# Altium integrated library Microchip I2C Serial EEPROM.IntLib: 1069 symbols (part 2 of 28)
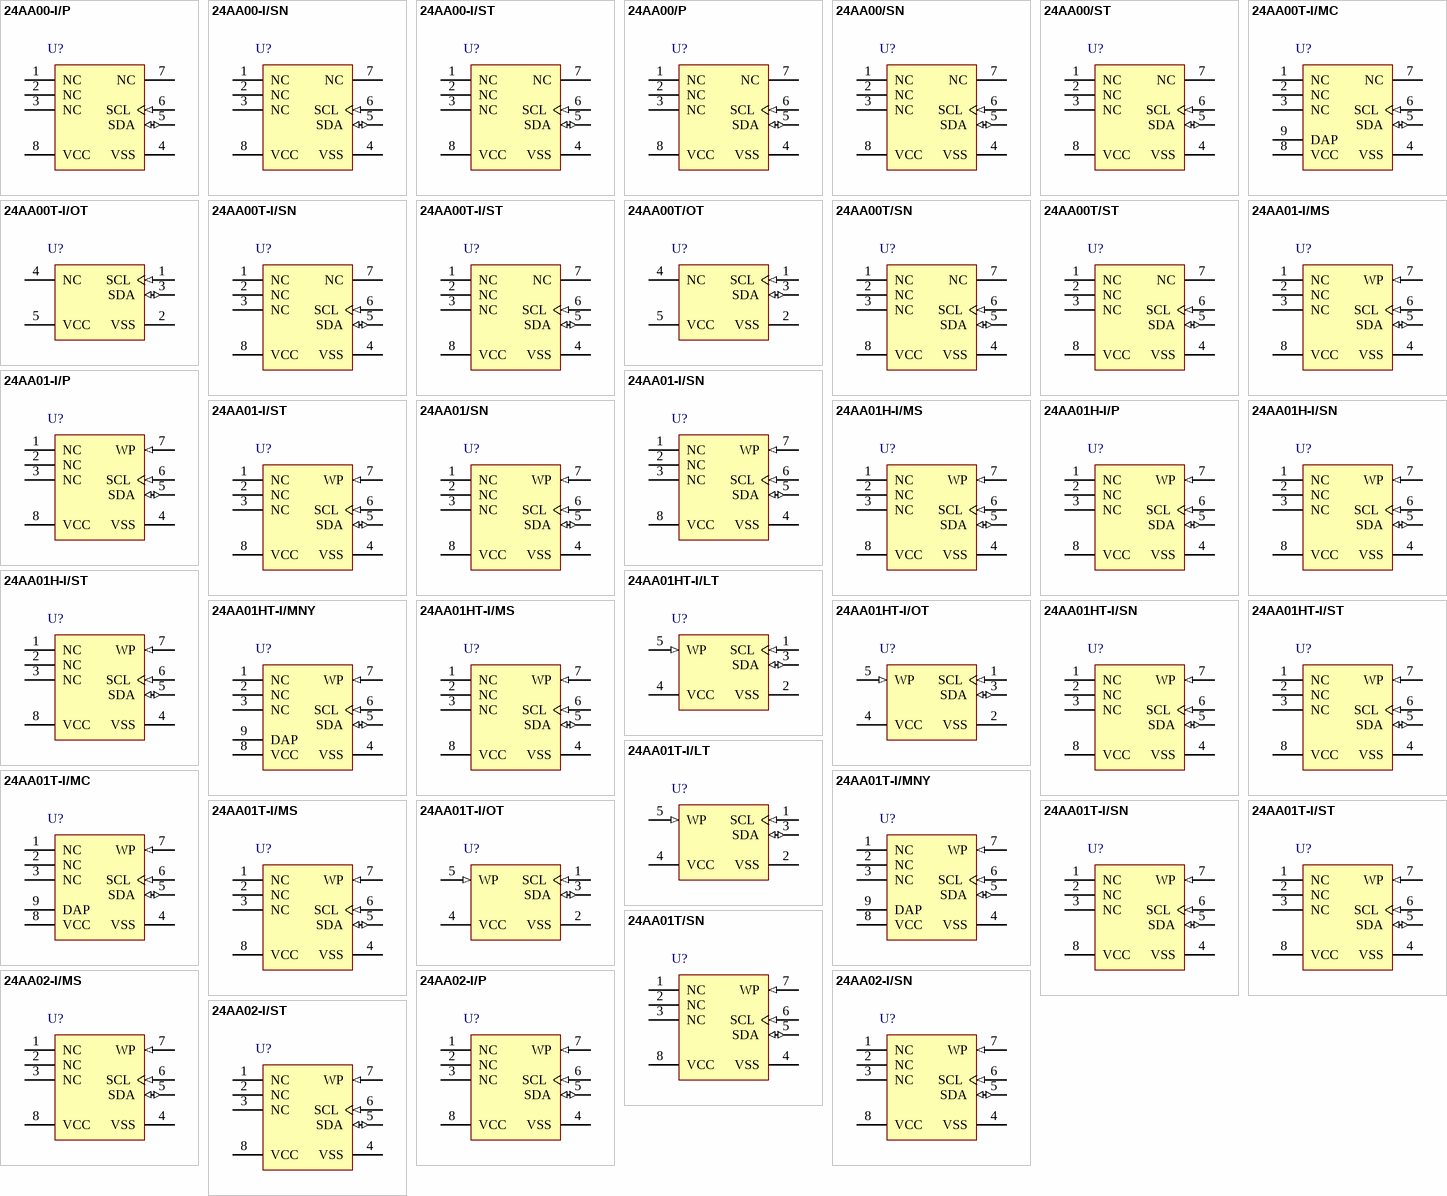
[diagram p27: symbols 24AA00-I/P to 24AA02-I/ST]

## 24AA02-I/ST
designator U?
2Kbit, 400kHz, 1.7V, I2C Serial EEPROM, 8-Pin TSSOP, Industrial Temperature; Manufacturer: Microchip; PartNumber: 24AA02-I/ST; DatasheetVersion: revJ, Feb-2009; PackageVersion: revBB, Aug-2009; PackageReference: TSSOP-ST8; PackageDescription: 8-Lead Plastic Thin Shrink Small Outline (ST) - 4.4mm Body [TSSOP]; Supplier 1: Digi-Key; Supplier Part Number 1: 24AA02-I/ST-ND; Supplier 2: Mouser; Supplier Part Number 2: 579-24AA02-I/ST; Mounting Technology: Surface Mount; Code_JEDEC: MO-153; ComponentLink1Description: Manufacturer URL; ComponentLink1URL: http://www.microchip.com/; ComponentLink2Description: Datasheet; ComponentLink2URL: http://ww1.microchip.com/downloads/en/DeviceDoc/21709J.pdf; ComponentLink3Description: Package Specification; ComponentLink3URL: http://www.microchip.com/stellent/groups/techpub_sg/documents/packagingspec/en012702.pdf
footprint TSSOP-ST8_N (TSOP, 8-Leads, Body 3x4.4mm, Pitch 0.65mm, IPC Medium Density)
footprint TSSOP-ST8_L (TSOP, 8-Leads, Body 3x4.4mm, Pitch 0.65mm, IPC High Density)
footprint TSSOP-ST8_M (TSOP, 8-Leads, Body 3x4.4mm, Pitch 0.65mm, IPC Low Density)
pins: 1 NC, 2 NC, 3 NC, 4 VSS (power), 5 SDA (io), 6 SCL (in), 7 WP (in), 8 VCC (power)

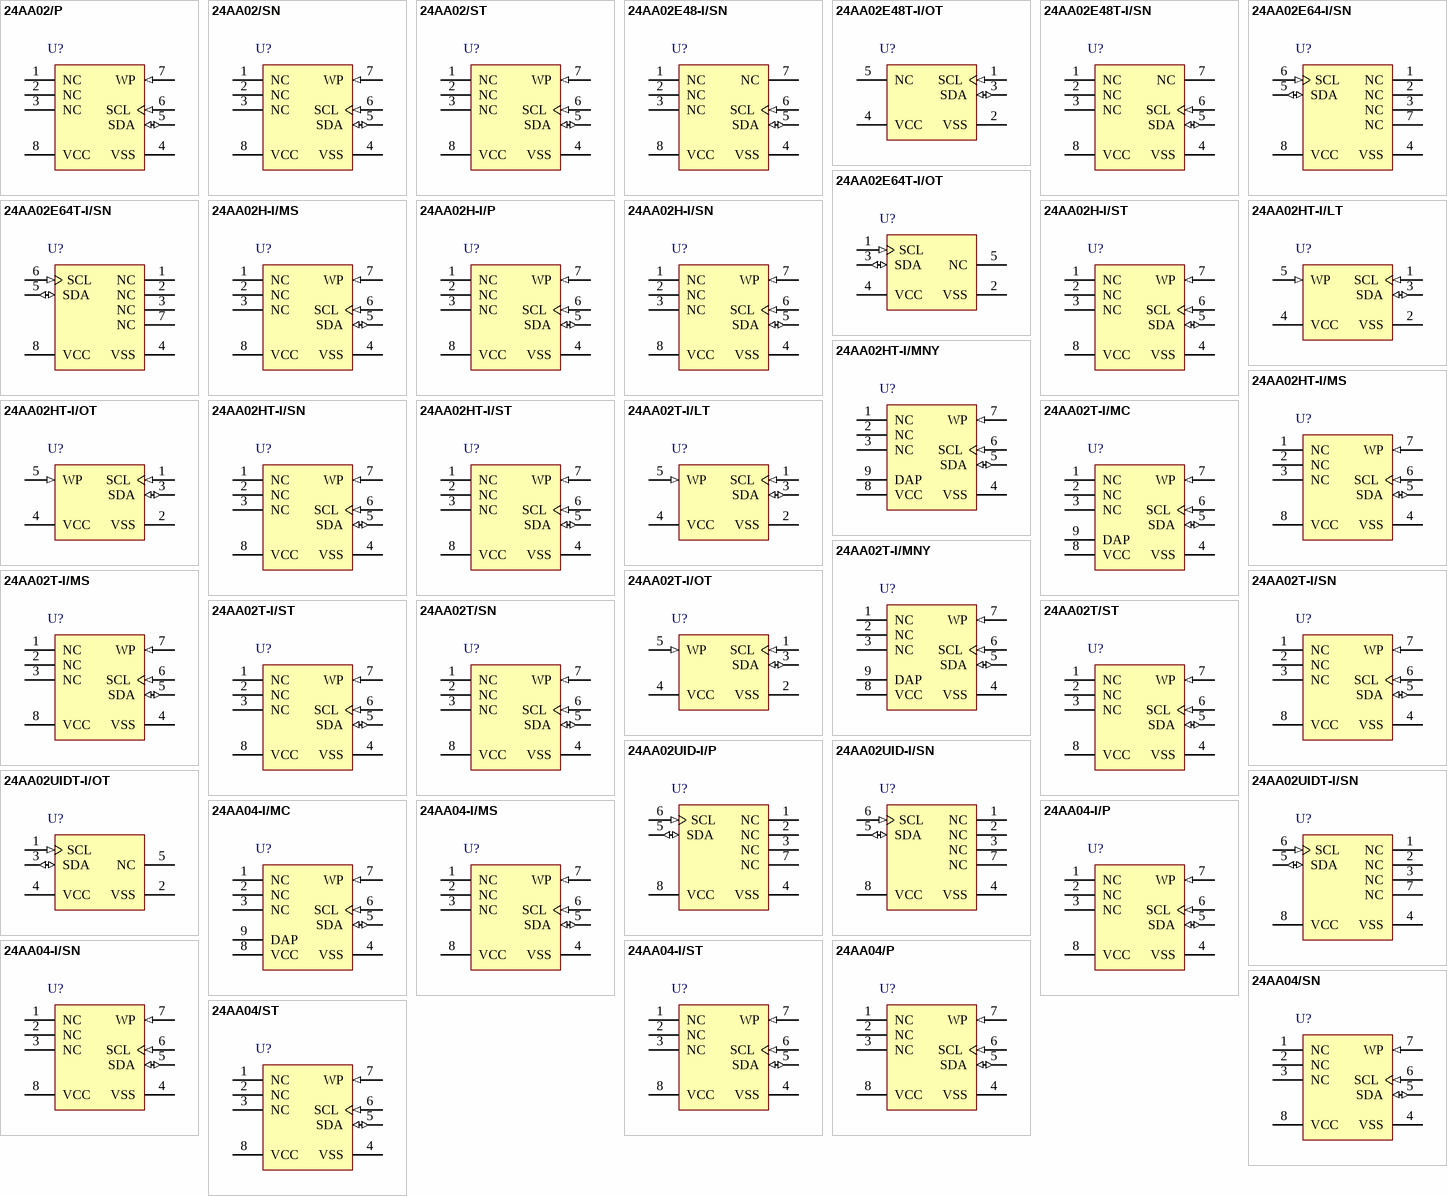
[diagram p1: symbols 24AA02/P to 24AA04/ST]

## 24AA02/P
designator U?
2Kbit, 400kHz, 1.7V, I2C Serial EEPROM, 8-Pin PDIP, Commercial Temperature; Manufacturer: Microchip; PartNumber: 24AA02/P; DatasheetVersion: revJ, Feb-2009; PackageVersion: revBB, Aug-2009; PackageReference: PDIP300-P8; PackageDescription: 8-Lead Plastic Dual In-Line (P) - 300 mil Body [PDIP]; Supplier 1: Digi-Key; Supplier Part Number 1: 24AA02/P-ND; Supplier 2: Mouser; Supplier Part Number 2: 579-24AA02/P; Mounting Technology: Through Hole; Code_JEDEC: MS-001; ComponentLink1Description: Manufacturer URL; ComponentLink1URL: http://www.microchip.com/; ComponentLink2Description: Datasheet; ComponentLink2URL: http://ww1.microchip.com/downloads/en/DeviceDoc/21709J.pdf; ComponentLink3Description: Package Specification; ComponentLink3URL: http://www.microchip.com/stellent/groups/techpub_sg/documents/packagingspec/en012702.pdf
footprint PDIP300-P8 (DIP, 8-Leads, Row Spacing 7.62mm, Pitch 2.54mm, Body 9.5x6.6mm)
pins: 1 NC, 2 NC, 3 NC, 4 VSS (power), 5 SDA (io), 6 SCL (in), 7 WP (in), 8 VCC (power)

## 24AA02/SN
designator U?
2Kbit, 400kHz, 1.7V, I2C Serial EEPROM, 8-Pin SOIC 150mil, Commercial Temperature; Manufacturer: Microchip; PartNumber: 24AA02/SN; DatasheetVersion: revJ, Feb-2009; PackageVersion: revBB, Aug-2009; PackageReference: SOIC-SN8; PackageDescription: 8-Lead Plastic Small Outline (SN) - Narrow, 3.90mm Body [SOIC]; Supplier 1: Digi-Key; Supplier Part Number 1: 24AA02/SN-ND; Supplier 2: Newark; Supplier Part Number 2: 89C9793; Supplier 3: Mouser; Supplier Part Number 3: 579-24AA02/SN; Mounting Technology: Surface Mount; Code_JEDEC: MS-012; Code_IPC: SOIC127P600-8; ComponentLink1Description: Manufacturer URL; ComponentLink1URL: http://www.microchip.com/; ComponentLink2Description: Datasheet; ComponentLink2URL: http://ww1.microchip.com/downloads/en/DeviceDoc/21709J.pdf; ComponentLink3Description: Package Specification; ComponentLink3URL: http://www.microchip.com/stellent/groups/techpub_sg/documents/packagingspec/en012702.pdf
footprint SOIC-SN8_N (SOIC, 8-Leads, Body 4.9x3.8mm, Pitch 1.27mm, IPC Medium Density)
footprint SOIC-SN8_L (SOIC, 8-Leads, Body 4.9x3.8mm, Pitch 1.27mm, IPC High Density)
footprint SOIC-SN8_M (SOIC, 8-Leads, Body 4.9x3.8mm, Pitch 1.27mm, IPC Low Density)
pins: 1 NC, 2 NC, 3 NC, 4 VSS (power), 5 SDA (io), 6 SCL (in), 7 WP (in), 8 VCC (power)

## 24AA02/ST
designator U?
2Kbit, 400kHz, 1.7V, I2C Serial EEPROM, 8-Pin TSSOP, Commercial Temperature; Manufacturer: Microchip; PartNumber: 24AA02/ST; DatasheetVersion: revJ, Feb-2009; PackageVersion: revBB, Aug-2009; PackageReference: TSSOP-ST8; PackageDescription: 8-Lead Plastic Thin Shrink Small Outline (ST) - 4.4mm Body [TSSOP]; Supplier 1: Digi-Key; Supplier Part Number 1: 24AA02/ST-ND; Supplier 2: Mouser; Supplier Part Number 2: 579-24AA02/ST; Mounting Technology: Surface Mount; Code_JEDEC: MO-153; ComponentLink1Description: Manufacturer URL; ComponentLink1URL: http://www.microchip.com/; ComponentLink2Description: Datasheet; ComponentLink2URL: http://ww1.microchip.com/downloads/en/DeviceDoc/21709J.pdf; ComponentLink3Description: Package Specification; ComponentLink3URL: http://www.microchip.com/stellent/groups/techpub_sg/documents/packagingspec/en012702.pdf
footprint TSSOP-ST8_N (TSOP, 8-Leads, Body 3x4.4mm, Pitch 0.65mm, IPC Medium Density)
footprint TSSOP-ST8_L (TSOP, 8-Leads, Body 3x4.4mm, Pitch 0.65mm, IPC High Density)
footprint TSSOP-ST8_M (TSOP, 8-Leads, Body 3x4.4mm, Pitch 0.65mm, IPC Low Density)
pins: 1 NC, 2 NC, 3 NC, 4 VSS (power), 5 SDA (io), 6 SCL (in), 7 WP (in), 8 VCC (power)

## 24AA02E48-I/SN
designator U?
2Kbit, 400kHz, 1.7V, I2C Serial EEPROM with EUI-48 Node Identity, 8-Pin SOIC 150mil, Industrial Temperature; Manufacturer: Microchip; PartNumber: 24AA02E48-I/SN; DatasheetVersion: revB, Jan-2009; PackageVersion: revBB, Aug-2009; PackageReference: SOIC-SN8; PackageDescription: 8-Lead Plastic Small Outline (SN) - Narrow, 3.90mm Body [SOIC]; Supplier 1: Digi-Key; Supplier Part Number 1: 24AA02E48-I/SN-ND; Supplier 2: Farnell; Supplier Part Number 2: 1688857; Supplier 3: Newark; Supplier Part Number 3: 45P4894; Supplier 4: Mouser; Supplier Part Number 4: 579-24AA02E48ISN; Mounting Technology: Surface Mount; Code_JEDEC: MS-012; Code_IPC: SOIC127P600-8; ComponentLink1Description: Manufacturer URL; ComponentLink1URL: http://www.microchip.com/; ComponentLink2Description: Datasheet; ComponentLink2URL: http://ww1.microchip.com/downloads/en/DeviceDoc/22124B.pdf; ComponentLink3Description: Package Specification; ComponentLink3URL: http://www.microchip.com/stellent/groups/techpub_sg/documents/packagingspec/en012702.pdf
footprint SOIC-SN8_N (SOIC, 8-Leads, Body 4.9x3.8mm, Pitch 1.27mm, IPC Medium Density)
footprint SOIC-SN8_L (SOIC, 8-Leads, Body 4.9x3.8mm, Pitch 1.27mm, IPC High Density)
footprint SOIC-SN8_M (SOIC, 8-Leads, Body 4.9x3.8mm, Pitch 1.27mm, IPC Low Density)
pins: 1 NC, 2 NC, 3 NC, 4 VSS (power), 5 SDA (io), 6 SCL (in), 7 NC, 8 VCC (power)

## 24AA02E48T-I/OT
designator U?
2Kbit, 400kHz, 1.7V, I2C Serial EEPROM with EUI-48 Node Identity, 5-Pin SOT-23, Industrial Temperature, Tape and Reel; Manufacturer: Microchip; PartNumber: 24AA02E48T-I/OT; DatasheetVersion: revB, Jan-2009; PackageVersion: revBB, Aug-2009; PackageReference: SOT-23-OT5; PackageDescription: 5-Lead Plastic Small Outline Transistor (OT) [SOT-23]; Supplier 1: Digi-Key; Supplier Part Number 1: 24AA02E48T-I/OTTR-ND; Supplier 2: Digi-Key; Supplier Part Number 2: 24AA02E48T-I/OTCT-ND; Supplier 3: Digi-Key; Supplier Part Number 3: 24AA02E48T-I/OTDKR-ND; Supplier 4: Farnell; Supplier Part Number 4: 1688855; Supplier 5: Farnell; Supplier Part Number 5: 1688855RL; Supplier 6: Newark; Supplier Part Number 6: 45P4895; Supplier 7: Mouser; Supplier Part Number 7: 579-24AA02E48TIOT; Mounting Technology: Surface Mount; Code_IPC: SOT23-5; ComponentLink1Description: Manufacturer URL; ComponentLink1URL: http://www.microchip.com/; ComponentLink2Description: Datasheet; ComponentLink2URL: http://ww1.microchip.com/downloads/en/DeviceDoc/22124B.pdf; ComponentLink3Description: Package Specification; ComponentLink3URL: http://www.microchip.com/stellent/groups/techpub_sg/documents/packagingspec/en012702.pdf
footprint SOT-23-OT5_N (SOT23, 5-Leads, Body 2.9x1.6mm, Pitch 0.95mm, Lead Span 2.7mm, IPC Medium Density)
footprint SOT-23-OT5_L (SOT23, 5-Leads, Body 2.9x1.6mm, Pitch 0.95mm, Lead Span 2.7mm, IPC High Density)
footprint SOT-23-OT5_M (SOT23, 5-Leads, Body 2.9x1.6mm, Pitch 0.95mm, Lead Span 2.7mm, IPC Low Density)
pins: 1 SCL (in), 2 VSS (power), 3 SDA (io), 4 VCC (power), 5 NC

## 24AA02E48T-I/SN
designator U?
2Kbit, 400kHz, 1.7V, I2C Serial EEPROM with EUI-48 Node Identity, 8-Pin SOIC 150mil, Industrial Temperature, Tape and Reel; Manufacturer: Microchip; PartNumber: 24AA02E48T-I/SN; DatasheetVersion: revB, Jan-2009; PackageVersion: revBB, Aug-2009; PackageReference: SOIC-SN8; PackageDescription: 8-Lead Plastic Small Outline (SN) - Narrow, 3.90mm Body [SOIC]; Supplier 1: Digi-Key; Supplier Part Number 1: 24AA02E48T-I/SN-ND; Supplier 2: Newark; Supplier Part Number 2: 45P4896; Supplier 3: Mouser; Supplier Part Number 3: 579-24AA02E48TISN; Mounting Technology: Surface Mount; Code_JEDEC: MS-012; Code_IPC: SOIC127P600-8; ComponentLink1Description: Manufacturer URL; ComponentLink1URL: http://www.microchip.com/; ComponentLink2Description: Datasheet; ComponentLink2URL: http://ww1.microchip.com/downloads/en/DeviceDoc/22124B.pdf; ComponentLink3Description: Package Specification; ComponentLink3URL: http://www.microchip.com/stellent/groups/techpub_sg/documents/packagingspec/en012702.pdf
footprint SOIC-SN8_N (SOIC, 8-Leads, Body 4.9x3.8mm, Pitch 1.27mm, IPC Medium Density)
footprint SOIC-SN8_L (SOIC, 8-Leads, Body 4.9x3.8mm, Pitch 1.27mm, IPC High Density)
footprint SOIC-SN8_M (SOIC, 8-Leads, Body 4.9x3.8mm, Pitch 1.27mm, IPC Low Density)
pins: 1 NC, 2 NC, 3 NC, 4 VSS (power), 5 SDA (io), 6 SCL (in), 7 NC, 8 VCC (power)

## 24AA02E64-I/SN
designator U?
2K I2C Serial EEPROMs with EUI-64 Node Identity, 1.7 to 5.5 V, 400 KHz, Industrial Temperature, 8-Pin SOIC (SN8), Tube; Manufacturer: Microchip; PartNumber: 24AA02E64-I/SN; DatasheetVersion: Rev. E; PackageVersion: C04-057C, 12/2012; PackageReference: SOIC-SN8; PackageDescription: 8-Lead Plastic Small Outline, 4.9 x 3.9 mm Body, 1.27 mm Pitch; Supplier 1: Digi-Key; Supplier Part Number 1: 24AA02E64-I/SN-ND; Supplier 2: Farnell; Supplier Part Number 2: 2345566; Supplier 3: Newark; Supplier Part Number 3: 66W7570; Supplier 4: Newark; Supplier Part Number 4: 01X0460; Supplier 5: Mouser; Supplier Part Number 5: 579-24AA02E64-I/SN; Packing: Tube; VCC Range: 1.7 to 5.5 V; Mounting Technology: Surface Mount; ComponentLink1Description: Manufacturer URL; ComponentLink1URL: http://www.microchip.com/; ComponentLink2Description: Datasheet; ComponentLink2URL: http://ww1.microchip.com/downloads/en/DeviceDoc/20002124E.pdf; ComponentLink3Description: Package Specification; ComponentLink3URL: http://ww1.microchip.com/downloads/en/DeviceDoc/20002122B.pdf
footprint MCHP-SOIC-SN8_N (SOIC, 8-Leads, Body 4.9x3.9mm, Pitch 1.27mm, IPC Medium Density)
footprint MCHP-SOIC-SN8_L (SOIC, 8-Leads, Body 4.9x3.9mm, Pitch 1.27mm, IPC High Density)
footprint MCHP-SOIC-SN8_M (SOIC, 8-Leads, Body 4.9x3.9mm, Pitch 1.27mm, IPC Low Density)
pins: 1 NC "Not Connected", 2 NC "Not Connected", 3 NC "Not Connected", 4 VSS (power) "Ground", 5 SDA (io) "Serial Address/Data I/O", 6 SCL (in) "Serial Clock", 7 NC "Not Connected", 8 VCC (power) "+1.7V to 5.5V Power Supply"

## 24AA02E64T-I/OT
designator U?
2K I2C Serial EEPROMs with EUI-64 Node Identity, 1.7 to 5.5 V, 400 KHz, Industrial Temperature, 5-Pin SOT-23 (OT5), Tape and Reel; Manufacturer: Microchip; PartNumber: 24AA02E64T-I/OT; DatasheetVersion: Rev. E; PackageVersion: C04-091B, 12/2012; PackageReference: SOT-23-OT5; PackageDescription: 5-Lead Plastic Small Outline Transistor, 2.9 x 1.55 mm Body, 0.95 mm Pitch; Supplier 1: Digi-Key; Supplier Part Number 1: 24AA02E64T-I/OTTR-ND; Supplier 2: Digi-Key; Supplier Part Number 2: 24AA02E64T-I/OTCT-ND; Supplier 3: Digi-Key; Supplier Part Number 3: 24AA02E64T-I/OTDKR-ND; Supplier 4: Farnell; Supplier Part Number 4: 2345567; Supplier 5: Farnell; Supplier Part Number 5: 2347518; Supplier 6: Newark; Supplier Part Number 6: 66W7571; Supplier 7: Newark; Supplier Part Number 7: 99W1950; Supplier 8: Newark; Supplier Part Number 8: 01X0461; Supplier 9: Mouser; Supplier Part Number 9: 579-24AA02E64T-I/OT; Packing: Tape and Reel; VCC Range: 1.7 to 5.5 V; Mounting Technology: Surface Mount; ComponentLink1Description: Manufacturer URL; ComponentLink1URL: http://www.microchip.com/; ComponentLink2Description: Datasheet; ComponentLink2URL: http://ww1.microchip.com/downloads/en/DeviceDoc/20002124E.pdf; ComponentLink3Description: Package Specification; ComponentLink3URL: http://www.microchip.com/stellent/groups/techpub_sg/documents/packagingspec/en012702.pdf
footprint MCHP-SOT-23-OT5_N (SOT23, 5-Leads, Body 2.9x1.55mm, Pitch 0.95mm, IPC Medium Density)
footprint MCHP-SOT-23-OT5_L (SOT23, 5-Leads, Body 2.9x1.55mm, Pitch 0.95mm, IPC High Density)
footprint MCHP-SOT-23-OT5_M (SOT23, 5-Leads, Body 2.9x1.55mm, Pitch 0.95mm, IPC Low Density)
pins: 1 SCL (in) "Serial Clock", 2 VSS (power) "Ground", 3 SDA (io) "Serial Address/Data I/O", 4 VCC (power) "+1.7V to 5.5V Power Supply", 5 NC "Not Connected"

## 24AA02E64T-I/SN
designator U?
2K I2C Serial EEPROMs with EUI-64 Node Identity, 1.7 to 5.5 V, 400 KHz, Industrial Temperature, 8-Pin SOIC (SN8), Tape and Reel; Manufacturer: Microchip; PartNumber: 24AA02E64T-I/SN; DatasheetVersion: Rev. E; PackageVersion: C04-057C, 12/2012; PackageReference: SOIC-SN8; PackageDescription: 8-Lead Plastic Small Outline, 4.9 x 3.9 mm Body, 1.27 mm Pitch; Supplier 1: Digi-Key; Supplier Part Number 1: 24AA02E64T-I/SN-ND; Supplier 2: Newark; Supplier Part Number 2: 66W7572; Supplier 3: Mouser; Supplier Part Number 3: 579-24AA02E64T-I/SN; Packing: Tape and Reel; VCC Range: 1.7 to 5.5 V; Mounting Technology: Surface Mount; ComponentLink1Description: Manufacturer URL; ComponentLink1URL: http://www.microchip.com/; ComponentLink2Description: Datasheet; ComponentLink2URL: http://ww1.microchip.com/downloads/en/DeviceDoc/20002124E.pdf; ComponentLink3Description: Package Specification; ComponentLink3URL: http://ww1.microchip.com/downloads/en/DeviceDoc/20002122B.pdf
footprint MCHP-SOIC-SN8_N (SOIC, 8-Leads, Body 4.9x3.9mm, Pitch 1.27mm, IPC Medium Density)
footprint MCHP-SOIC-SN8_L (SOIC, 8-Leads, Body 4.9x3.9mm, Pitch 1.27mm, IPC High Density)
footprint MCHP-SOIC-SN8_M (SOIC, 8-Leads, Body 4.9x3.9mm, Pitch 1.27mm, IPC Low Density)
pins: 1 NC "Not Connected", 2 NC "Not Connected", 3 NC "Not Connected", 4 VSS (power) "Ground", 5 SDA (io) "Serial Address/Data I/O", 6 SCL (in) "Serial Clock", 7 NC "Not Connected", 8 VCC (power) "+1.7V to 5.5V Power Supply"

## 24AA02H-I/MS
designator U?
2Kbit, 400kHz, 1.7V, I2C Serial EEPROM, 8-Pin MSOP, Industrial Temperature; Manufacturer: Microchip; PartNumber: 24AA02H-I/MS; DatasheetVersion: revA, Sep-2008; PackageVersion: revBB, Aug-2009; PackageReference: MSOP-MS8; PackageDescription: 8-Lead Plastic Micro Small Outline Package (MS) [MSOP]; Supplier 1: Digi-Key; Supplier Part Number 1: 24AA02H-I/MS-ND; Supplier 2: Mouser; Supplier Part Number 2: 579-24AA02H-I/MS; Mounting Technology: Surface Mount; ComponentLink1Description: Manufacturer URL; ComponentLink1URL: http://www.microchip.com/; ComponentLink2Description: Datasheet; ComponentLink2URL: http://ww1.microchip.com/downloads/en/DeviceDoc/22105A.pdf; ComponentLink3Description: Package Specification; ComponentLink3URL: http://www.microchip.com/stellent/groups/techpub_sg/documents/packagingspec/en012702.pdf
footprint MSOP-MS8_N (TSOP, 8-Leads, Body 3x3mm, Pitch 0.65mm, IPC Medium Density)
footprint MSOP-MS8_L (TSOP, 8-Leads, Body 3x3mm, Pitch 0.65mm, IPC High Density)
footprint MSOP-MS8_M (TSOP, 8-Leads, Body 3x3mm, Pitch 0.65mm, IPC Low Density)
pins: 1 NC, 2 NC, 3 NC, 4 VSS (power), 5 SDA (io), 6 SCL (in), 7 WP (in), 8 VCC (power)

## 24AA02H-I/P
designator U?
2Kbit, 400kHz, 1.7V, I2C Serial EEPROM, 8-Pin PDIP, Industrial Temperature; Manufacturer: Microchip; PartNumber: 24AA02H-I/P; DatasheetVersion: revA, Sep-2008; PackageVersion: revBB, Aug-2009; PackageReference: PDIP300-P8; PackageDescription: 8-Lead Plastic Dual In-Line (P) - 300 mil Body [PDIP]; Supplier 1: Digi-Key; Supplier Part Number 1: 24AA02H-I/P-ND; Supplier 2: Mouser; Supplier Part Number 2: 579-24AA02H-I/P; Mounting Technology: Through Hole; Code_JEDEC: MS-001; ComponentLink1Description: Manufacturer URL; ComponentLink1URL: http://www.microchip.com/; ComponentLink2Description: Datasheet; ComponentLink2URL: http://ww1.microchip.com/downloads/en/DeviceDoc/22105A.pdf; ComponentLink3Description: Package Specification; ComponentLink3URL: http://www.microchip.com/stellent/groups/techpub_sg/documents/packagingspec/en012702.pdf
footprint PDIP300-P8 (DIP, 8-Leads, Row Spacing 7.62mm, Pitch 2.54mm, Body 9.5x6.6mm)
pins: 1 NC, 2 NC, 3 NC, 4 VSS (power), 5 SDA (io), 6 SCL (in), 7 WP (in), 8 VCC (power)

## 24AA02H-I/SN
designator U?
2Kbit, 400kHz, 1.7V, I2C Serial EEPROM, 8-Pin SOIC 150mil, Industrial Temperature; Manufacturer: Microchip; PartNumber: 24AA02H-I/SN; DatasheetVersion: revA, Sep-2008; PackageVersion: revBB, Aug-2009; PackageReference: SOIC-SN8; PackageDescription: 8-Lead Plastic Small Outline (SN) - Narrow, 3.90mm Body [SOIC]; Supplier 1: Digi-Key; Supplier Part Number 1: 24AA02H-I/SN-ND; Supplier 2: Mouser; Supplier Part Number 2: 579-24AA02H-I/SN; Mounting Technology: Surface Mount; Code_JEDEC: MS-012; Code_IPC: SOIC127P600-8; ComponentLink1Description: Manufacturer URL; ComponentLink1URL: http://www.microchip.com/; ComponentLink2Description: Datasheet; ComponentLink2URL: http://ww1.microchip.com/downloads/en/DeviceDoc/22105A.pdf; ComponentLink3Description: Package Specification; ComponentLink3URL: http://www.microchip.com/stellent/groups/techpub_sg/documents/packagingspec/en012702.pdf
footprint SOIC-SN8_N (SOIC, 8-Leads, Body 4.9x3.8mm, Pitch 1.27mm, IPC Medium Density)
footprint SOIC-SN8_L (SOIC, 8-Leads, Body 4.9x3.8mm, Pitch 1.27mm, IPC High Density)
footprint SOIC-SN8_M (SOIC, 8-Leads, Body 4.9x3.8mm, Pitch 1.27mm, IPC Low Density)
pins: 1 NC, 2 NC, 3 NC, 4 VSS (power), 5 SDA (io), 6 SCL (in), 7 WP (in), 8 VCC (power)

## 24AA02H-I/ST
designator U?
2Kbit, 400kHz, 1.7V, I2C Serial EEPROM, 8-Pin TSSOP, Industrial Temperature; Manufacturer: Microchip; PartNumber: 24AA02H-I/ST; DatasheetVersion: revA, Sep-2008; PackageVersion: revBB, Aug-2009; PackageReference: TSSOP-ST8; PackageDescription: 8-Lead Plastic Thin Shrink Small Outline (ST) - 4.4mm Body [TSSOP]; Supplier 1: Digi-Key; Supplier Part Number 1: 24AA02H-I/ST-ND; Supplier 2: Mouser; Supplier Part Number 2: 579-24AA02H-I/ST; Mounting Technology: Surface Mount; Code_JEDEC: MO-153; ComponentLink1Description: Manufacturer URL; ComponentLink1URL: http://www.microchip.com/; ComponentLink2Description: Datasheet; ComponentLink2URL: http://ww1.microchip.com/downloads/en/DeviceDoc/22105A.pdf; ComponentLink3Description: Package Specification; ComponentLink3URL: http://www.microchip.com/stellent/groups/techpub_sg/documents/packagingspec/en012702.pdf
footprint TSSOP-ST8_N (TSOP, 8-Leads, Body 3x4.4mm, Pitch 0.65mm, IPC Medium Density)
footprint TSSOP-ST8_L (TSOP, 8-Leads, Body 3x4.4mm, Pitch 0.65mm, IPC High Density)
footprint TSSOP-ST8_M (TSOP, 8-Leads, Body 3x4.4mm, Pitch 0.65mm, IPC Low Density)
pins: 1 NC, 2 NC, 3 NC, 4 VSS (power), 5 SDA (io), 6 SCL (in), 7 WP (in), 8 VCC (power)

## 24AA02HT-I/LT
designator U?
2Kbit, 400kHz, 1.7V, I2C Serial EEPROM, 5-Pin SC70, Industrial Temperature, Tape and Reel; Manufacturer: Microchip; PartNumber: 24AA02HT-I/LT; DatasheetVersion: revA, Sep-2008; PackageVersion: revBB, Aug-2009; PackageReference: SC70-LT5; PackageDescription: 5-Lead Plastic Small Outline Transistor (LT) [SC70]; Supplier 1: Digi-Key; Supplier Part Number 1: 24AA02HT-I/LTTR-ND; Supplier 2: Digi-Key; Supplier Part Number 2: 24AA02HT-I/LTCT-ND; Supplier 3: Digi-Key; Supplier Part Number 3: 24AA02HT-I/LTDKR-ND; Supplier 4: Mouser; Supplier Part Number 4: 579-24AA02HTILT; Mounting Technology: Surface Mount; Code_IPC: SOT353-5; ComponentLink1Description: Manufacturer URL; ComponentLink1URL: http://www.microchip.com/; ComponentLink2Description: Datasheet; ComponentLink2URL: http://ww1.microchip.com/downloads/en/DeviceDoc/22105A.pdf; ComponentLink3Description: Package Specification; ComponentLink3URL: http://www.microchip.com/stellent/groups/techpub_sg/documents/packagingspec/en012702.pdf
footprint SC70-LT5_N (SOT353, 5-Leads, Body 2x1.3mm, Pitch 0.65mm, Lead Span 2.1mm, IPC Medium Density)
footprint SC70-LT5_L (SOT353, 5-Leads, Body 2x1.3mm, Pitch 0.65mm, Lead Span 2.1mm, IPC High Density)
footprint SC70-LT5_M (SOT353, 5-Leads, Body 2x1.3mm, Pitch 0.65mm, Lead Span 2.1mm, IPC Low Density)
pins: 1 SCL (in), 2 VSS (power), 3 SDA (io), 4 VCC (power), 5 WP (in)

## 24AA02HT-I/MNY
designator U?
2Kbit, 400kHz, 1.7V, I2C Serial EEPROM, 8-Pin TDFN (NiPdAu finish), Industrial Temperature, Tape and Reel; Manufacturer: Microchip; PartNumber: 24AA02HT-I/MNY; DatasheetVersion: revA, Sep-2008; PackageVersion: revBB, Aug-2009; PackageReference: TDFN-MN8; PackageDescription: 8-Lead Plastic Dual Flat, No Lead Package (MN) - 2x3x0.75mm Body [TDFN]; Supplier 1: Digi-Key; Supplier Part Number 1: 24AA02HT-I/MNYTR-ND; Supplier 2: Digi-Key; Supplier Part Number 2: 24AA02HT-I/MNYCT-ND; Supplier 3: Digi-Key; Supplier Part Number 3: 24AA02HT-I/MNYDKR-ND; Supplier 4: Mouser; Supplier Part Number 4: 579-24AA02HTIMNY; Mounting Technology: Surface Mount; ComponentLink1Description: Manufacturer URL; ComponentLink1URL: http://www.microchip.com/; ComponentLink2Description: Datasheet; ComponentLink2URL: http://ww1.microchip.com/downloads/en/DeviceDoc/22105A.pdf; ComponentLink3Description: Package Specification; ComponentLink3URL: http://www.microchip.com/stellent/groups/techpub_sg/documents/packagingspec/en012702.pdf
footprint TDFN-MN8 (SON, 8-Leads, Body 2x3mm, Pitch 0.5mm, Microchip Recommended)
pins: 1 NC, 2 NC, 3 NC, 4 VSS (power), 5 SDA (io), 6 SCL (in), 7 WP (in), 8 VCC (power), 9 DAP (power)

## 24AA02HT-I/MS
designator U?
2Kbit, 400kHz, 1.7V, I2C Serial EEPROM, 8-Pin MSOP, Industrial Temperature, Tape and Reel; Manufacturer: Microchip; PartNumber: 24AA02HT-I/MS; DatasheetVersion: revA, Sep-2008; PackageVersion: revBB, Aug-2009; PackageReference: MSOP-MS8; PackageDescription: 8-Lead Plastic Micro Small Outline Package (MS) [MSOP]; Supplier 1: Digi-Key; Supplier Part Number 1: 24AA02HT-I/MSTR-ND; Supplier 2: Mouser; Supplier Part Number 2: 579-24AA02HT-I/MS; Mounting Technology: Surface Mount; ComponentLink1Description: Manufacturer URL; ComponentLink1URL: http://www.microchip.com/; ComponentLink2Description: Datasheet; ComponentLink2URL: http://ww1.microchip.com/downloads/en/DeviceDoc/22105A.pdf; ComponentLink3Description: Package Specification; ComponentLink3URL: http://www.microchip.com/stellent/groups/techpub_sg/documents/packagingspec/en012702.pdf
footprint MSOP-MS8_N (TSOP, 8-Leads, Body 3x3mm, Pitch 0.65mm, IPC Medium Density)
footprint MSOP-MS8_L (TSOP, 8-Leads, Body 3x3mm, Pitch 0.65mm, IPC High Density)
footprint MSOP-MS8_M (TSOP, 8-Leads, Body 3x3mm, Pitch 0.65mm, IPC Low Density)
pins: 1 NC, 2 NC, 3 NC, 4 VSS (power), 5 SDA (io), 6 SCL (in), 7 WP (in), 8 VCC (power)

## 24AA02HT-I/OT
designator U?
2Kbit, 400kHz, 1.7V, I2C Serial EEPROM, 5-Pin SOT-23, Industrial Temperature, Tape and Reel; Manufacturer: Microchip; PartNumber: 24AA02HT-I/OT; DatasheetVersion: revA, Sep-2008; PackageVersion: revBB, Aug-2009; PackageReference: SOT-23-OT5; PackageDescription: 5-Lead Plastic Small Outline Transistor (OT) [SOT-23]; Supplier 1: Digi-Key; Supplier Part Number 1: 24AA02HT-I/OT-ND; Supplier 2: Mouser; Supplier Part Number 2: 579-24AA02HT-I/OT; Mounting Technology: Surface Mount; Code_IPC: SOT23-5; ComponentLink1Description: Manufacturer URL; ComponentLink1URL: http://www.microchip.com/; ComponentLink2Description: Datasheet; ComponentLink2URL: http://ww1.microchip.com/downloads/en/DeviceDoc/22105A.pdf; ComponentLink3Description: Package Specification; ComponentLink3URL: http://www.microchip.com/stellent/groups/techpub_sg/documents/packagingspec/en012702.pdf
footprint SOT-23-OT5_N (SOT23, 5-Leads, Body 2.9x1.6mm, Pitch 0.95mm, Lead Span 2.7mm, IPC Medium Density)
footprint SOT-23-OT5_L (SOT23, 5-Leads, Body 2.9x1.6mm, Pitch 0.95mm, Lead Span 2.7mm, IPC High Density)
footprint SOT-23-OT5_M (SOT23, 5-Leads, Body 2.9x1.6mm, Pitch 0.95mm, Lead Span 2.7mm, IPC Low Density)
pins: 1 SCL (in), 2 VSS (power), 3 SDA (io), 4 VCC (power), 5 WP (in)

## 24AA02HT-I/SN
designator U?
2Kbit, 400kHz, 1.7V, I2C Serial EEPROM, 8-Pin SOIC 150mil, Industrial Temperature, Tape and Reel; Manufacturer: Microchip; PartNumber: 24AA02HT-I/SN; DatasheetVersion: revA, Sep-2008; PackageVersion: revBB, Aug-2009; PackageReference: SOIC-SN8; PackageDescription: 8-Lead Plastic Small Outline (SN) - Narrow, 3.90mm Body [SOIC]; Supplier 1: Digi-Key; Supplier Part Number 1: 24AA02HT-I/SNTR-ND; Supplier 2: Mouser; Supplier Part Number 2: 579-24AA02HT-I/SN; Mounting Technology: Surface Mount; Code_JEDEC: MS-012; Code_IPC: SOIC127P600-8; ComponentLink1Description: Manufacturer URL; ComponentLink1URL: http://www.microchip.com/; ComponentLink2Description: Datasheet; ComponentLink2URL: http://ww1.microchip.com/downloads/en/DeviceDoc/22105A.pdf; ComponentLink3Description: Package Specification; ComponentLink3URL: http://www.microchip.com/stellent/groups/techpub_sg/documents/packagingspec/en012702.pdf
footprint SOIC-SN8_N (SOIC, 8-Leads, Body 4.9x3.8mm, Pitch 1.27mm, IPC Medium Density)
footprint SOIC-SN8_L (SOIC, 8-Leads, Body 4.9x3.8mm, Pitch 1.27mm, IPC High Density)
footprint SOIC-SN8_M (SOIC, 8-Leads, Body 4.9x3.8mm, Pitch 1.27mm, IPC Low Density)
pins: 1 NC, 2 NC, 3 NC, 4 VSS (power), 5 SDA (io), 6 SCL (in), 7 WP (in), 8 VCC (power)

## 24AA02HT-I/ST
designator U?
2Kbit, 400kHz, 1.7V, I2C Serial EEPROM, 8-Pin TSSOP, Industrial Temperature, Tape and Reel; Manufacturer: Microchip; PartNumber: 24AA02HT-I/ST; DatasheetVersion: revA, Sep-2008; PackageVersion: revBB, Aug-2009; PackageReference: TSSOP-ST8; PackageDescription: 8-Lead Plastic Thin Shrink Small Outline (ST) - 4.4mm Body [TSSOP]; Supplier 1: Digi-Key; Supplier Part Number 1: 24AA02HT-I/STTR-ND; Supplier 2: Mouser; Supplier Part Number 2: 579-24AA02HT-I/ST; Mounting Technology: Surface Mount; Code_JEDEC: MO-153; ComponentLink1Description: Manufacturer URL; ComponentLink1URL: http://www.microchip.com/; ComponentLink2Description: Datasheet; ComponentLink2URL: http://ww1.microchip.com/downloads/en/DeviceDoc/22105A.pdf; ComponentLink3Description: Package Specification; ComponentLink3URL: http://www.microchip.com/stellent/groups/techpub_sg/documents/packagingspec/en012702.pdf
footprint TSSOP-ST8_N (TSOP, 8-Leads, Body 3x4.4mm, Pitch 0.65mm, IPC Medium Density)
footprint TSSOP-ST8_L (TSOP, 8-Leads, Body 3x4.4mm, Pitch 0.65mm, IPC High Density)
footprint TSSOP-ST8_M (TSOP, 8-Leads, Body 3x4.4mm, Pitch 0.65mm, IPC Low Density)
pins: 1 NC, 2 NC, 3 NC, 4 VSS (power), 5 SDA (io), 6 SCL (in), 7 WP (in), 8 VCC (power)

## 24AA02T-I/LT
designator U?
2Kbit, 400kHz, 1.7V, I2C Serial EEPROM, 5-Pin SC70, Industrial Temperature, Tape and Reel; Manufacturer: Microchip; PartNumber: 24AA02T-I/LT; DatasheetVersion: revJ, Feb-2009; PackageVersion: revBB, Aug-2009; PackageReference: SC70-LT5; PackageDescription: 5-Lead Plastic Small Outline Transistor (LT) [SC70]; Supplier 1: Digi-Key; Supplier Part Number 1: 24AA02T-I/LTTR-ND; Supplier 2: Digi-Key; Supplier Part Number 2: 24AA02T-I/LTCT-ND; Supplier 3: Digi-Key; Supplier Part Number 3: 24AA02T-I/LTDKR-ND; Supplier 4: Newark; Supplier Part Number 4: 98M5171; Supplier 5: Mouser; Supplier Part Number 5: 579-24AA02T-I/LT; Mounting Technology: Surface Mount; Code_IPC: SOT353-5; ComponentLink1Description: Manufacturer URL; ComponentLink1URL: http://www.microchip.com/; ComponentLink2Description: Datasheet; ComponentLink2URL: http://ww1.microchip.com/downloads/en/DeviceDoc/21709J.pdf; ComponentLink3Description: Package Specification; ComponentLink3URL: http://www.microchip.com/stellent/groups/techpub_sg/documents/packagingspec/en012702.pdf
footprint SC70-LT5_N (SOT353, 5-Leads, Body 2x1.3mm, Pitch 0.65mm, Lead Span 2.1mm, IPC Medium Density)
footprint SC70-LT5_L (SOT353, 5-Leads, Body 2x1.3mm, Pitch 0.65mm, Lead Span 2.1mm, IPC High Density)
footprint SC70-LT5_M (SOT353, 5-Leads, Body 2x1.3mm, Pitch 0.65mm, Lead Span 2.1mm, IPC Low Density)
pins: 1 SCL (in), 2 VSS (power), 3 SDA (io), 4 VCC (power), 5 WP (in)

## 24AA02T-I/MC
designator U?
2Kbit, 400kHz, 1.7V, I2C Serial EEPROM, 8-Pin DFN, Industrial Temperature, Tape and Reel; Manufacturer: Microchip; PartNumber: 24AA02T-I/MC; DatasheetVersion: revJ, Feb-2009; PackageVersion: revBB, Aug-2009; PackageReference: DFN-MC8; PackageDescription: 8-Lead Plastic Dual Flat, No Lead Package (MC) - 2x3x0.9mm Body [DFN]; Supplier 1: Digi-Key; Supplier Part Number 1: 24AA02T-I/MC-ND; Supplier 2: Newark; Supplier Part Number 2: 72J3384; Supplier 3: Mouser; Supplier Part Number 3: 579-24AA02T-I/MC; Mounting Technology: Surface Mount; ComponentLink1Description: Manufacturer URL; ComponentLink1URL: http://www.microchip.com/; ComponentLink2Description: Datasheet; ComponentLink2URL: http://ww1.microchip.com/downloads/en/DeviceDoc/21709J.pdf; ComponentLink3Description: Package Specification; ComponentLink3URL: http://www.microchip.com/stellent/groups/techpub_sg/documents/packagingspec/en012702.pdf
footprint DFN-MC8 (SON, 8-Leads, Body 2x3mm, Pitch 0.5mm, Microchip Recommended)
pins: 1 NC, 2 NC, 3 NC, 4 VSS (power), 5 SDA (io), 6 SCL (in), 7 WP (in), 8 VCC (power), 9 DAP (power)

## 24AA02T-I/MNY
designator U?
2Kbit, 400kHz, 1.7V, I2C Serial EEPROM, 8-Pin TDFN (NiPdAu finish), Industrial Temperature, Tape and Reel; Manufacturer: Microchip; PartNumber: 24AA02T-I/MNY; DatasheetVersion: revJ, Feb-2009; PackageVersion: revBB, Aug-2009; PackageReference: TDFN-MN8; PackageDescription: 8-Lead Plastic Dual Flat, No Lead Package (MN) - 2x3x0.75mm Body [TDFN]; Supplier 1: Digi-Key; Supplier Part Number 1: 24AA02T-I/MNYTR-ND; Supplier 2: Digi-Key; Supplier Part Number 2: 24AA02T-I/MNYCT-ND; Supplier 3: Digi-Key; Supplier Part Number 3: 24AA02T-I/MNYDKR-ND; Supplier 4: Mouser; Supplier Part Number 4: 579-24AA02T-I/MNY; Mounting Technology: Surface Mount; ComponentLink1Description: Manufacturer URL; ComponentLink1URL: http://www.microchip.com/; ComponentLink2Description: Datasheet; ComponentLink2URL: http://ww1.microchip.com/downloads/en/DeviceDoc/21709J.pdf; ComponentLink3Description: Package Specification; ComponentLink3URL: http://www.microchip.com/stellent/groups/techpub_sg/documents/packagingspec/en012702.pdf
footprint TDFN-MN8 (SON, 8-Leads, Body 2x3mm, Pitch 0.5mm, Microchip Recommended)
pins: 1 NC, 2 NC, 3 NC, 4 VSS (power), 5 SDA (io), 6 SCL (in), 7 WP (in), 8 VCC (power), 9 DAP (power)

## 24AA02T-I/MS
designator U?
2Kbit, 400kHz, 1.7V, I2C Serial EEPROM, 8-Pin MSOP, Industrial Temperature, Tape and Reel; Manufacturer: Microchip; PartNumber: 24AA02T-I/MS; DatasheetVersion: revJ, Feb-2009; PackageVersion: revBB, Aug-2009; PackageReference: MSOP-MS8; PackageDescription: 8-Lead Plastic Micro Small Outline Package (MS) [MSOP]; Supplier 1: Digi-Key; Supplier Part Number 1: 24AA02T-I/MS-ND; Supplier 2: Mouser; Supplier Part Number 2: 579-24AA02T-I/MS; Mounting Technology: Surface Mount; ComponentLink1Description: Manufacturer URL; ComponentLink1URL: http://www.microchip.com/; ComponentLink2Description: Datasheet; ComponentLink2URL: http://ww1.microchip.com/downloads/en/DeviceDoc/21709J.pdf; ComponentLink3Description: Package Specification; ComponentLink3URL: http://www.microchip.com/stellent/groups/techpub_sg/documents/packagingspec/en012702.pdf
footprint MSOP-MS8_N (TSOP, 8-Leads, Body 3x3mm, Pitch 0.65mm, IPC Medium Density)
footprint MSOP-MS8_L (TSOP, 8-Leads, Body 3x3mm, Pitch 0.65mm, IPC High Density)
footprint MSOP-MS8_M (TSOP, 8-Leads, Body 3x3mm, Pitch 0.65mm, IPC Low Density)
pins: 1 NC, 2 NC, 3 NC, 4 VSS (power), 5 SDA (io), 6 SCL (in), 7 WP (in), 8 VCC (power)

## 24AA02T-I/OT
designator U?
2Kbit, 400kHz, 1.7V, I2C Serial EEPROM, 5-Pin SOT-23, Industrial Temperature, Tape and Reel; Manufacturer: Microchip; PartNumber: 24AA02T-I/OT; DatasheetVersion: revJ, Feb-2009; PackageVersion: revBB, Aug-2009; PackageReference: SOT-23-OT5; PackageDescription: 5-Lead Plastic Small Outline Transistor (OT) [SOT-23]; Supplier 1: Digi-Key; Supplier Part Number 1: 24AA02T-I/OTTR-ND; Supplier 2: Digi-Key; Supplier Part Number 2: 24AA02T-I/OTCT-ND; Supplier 3: Digi-Key; Supplier Part Number 3: 24AA02T-I/OTDKR-ND; Supplier 4: Farnell; Supplier Part Number 4: 1331273; Supplier 5: Farnell; Supplier Part Number 5: 1331273RL; Supplier 6: Newark; Supplier Part Number 6: 92C6808; Supplier 7: Mouser; Supplier Part Number 7: 579-24AA02T-I/OT; Mounting Technology: Surface Mount; Code_IPC: SOT23-5; ComponentLink1Description: Manufacturer URL; ComponentLink1URL: http://www.microchip.com/; ComponentLink2Description: Datasheet; ComponentLink2URL: http://ww1.microchip.com/downloads/en/DeviceDoc/21709J.pdf; ComponentLink3Description: Package Specification; ComponentLink3URL: http://www.microchip.com/stellent/groups/techpub_sg/documents/packagingspec/en012702.pdf
footprint SOT-23-OT5_N (SOT23, 5-Leads, Body 2.9x1.6mm, Pitch 0.95mm, Lead Span 2.7mm, IPC Medium Density)
footprint SOT-23-OT5_L (SOT23, 5-Leads, Body 2.9x1.6mm, Pitch 0.95mm, Lead Span 2.7mm, IPC High Density)
footprint SOT-23-OT5_M (SOT23, 5-Leads, Body 2.9x1.6mm, Pitch 0.95mm, Lead Span 2.7mm, IPC Low Density)
pins: 1 SCL (in), 2 VSS (power), 3 SDA (io), 4 VCC (power), 5 WP (in)

## 24AA02T-I/SN
designator U?
2Kbit, 400kHz, 1.7V, I2C Serial EEPROM, 8-Pin SOIC 150mil, Industrial Temperature, Tape and Reel; Manufacturer: Microchip; PartNumber: 24AA02T-I/SN; DatasheetVersion: revJ, Feb-2009; PackageVersion: revBB, Aug-2009; PackageReference: SOIC-SN8; PackageDescription: 8-Lead Plastic Small Outline (SN) - Narrow, 3.90mm Body [SOIC]; Supplier 1: Digi-Key; Supplier Part Number 1: 24AA02T-I/SN-ND; Supplier 2: Newark; Supplier Part Number 2: 92C6809; Supplier 3: Mouser; Supplier Part Number 3: 579-24AA02T-I/SN; Mounting Technology: Surface Mount; Code_JEDEC: MS-012; Code_IPC: SOIC127P600-8; ComponentLink1Description: Manufacturer URL; ComponentLink1URL: http://www.microchip.com/; ComponentLink2Description: Datasheet; ComponentLink2URL: http://ww1.microchip.com/downloads/en/DeviceDoc/21709J.pdf; ComponentLink3Description: Package Specification; ComponentLink3URL: http://www.microchip.com/stellent/groups/techpub_sg/documents/packagingspec/en012702.pdf
footprint SOIC-SN8_N (SOIC, 8-Leads, Body 4.9x3.8mm, Pitch 1.27mm, IPC Medium Density)
footprint SOIC-SN8_L (SOIC, 8-Leads, Body 4.9x3.8mm, Pitch 1.27mm, IPC High Density)
footprint SOIC-SN8_M (SOIC, 8-Leads, Body 4.9x3.8mm, Pitch 1.27mm, IPC Low Density)
pins: 1 NC, 2 NC, 3 NC, 4 VSS (power), 5 SDA (io), 6 SCL (in), 7 WP (in), 8 VCC (power)

## 24AA02T-I/ST
designator U?
2Kbit, 400kHz, 1.7V, I2C Serial EEPROM, 8-Pin TSSOP, Industrial Temperature, Tape and Reel; Manufacturer: Microchip; PartNumber: 24AA02T-I/ST; DatasheetVersion: revJ, Feb-2009; PackageVersion: revBB, Aug-2009; PackageReference: TSSOP-ST8; PackageDescription: 8-Lead Plastic Thin Shrink Small Outline (ST) - 4.4mm Body [TSSOP]; Supplier 1: Digi-Key; Supplier Part Number 1: 24AA02T-I/ST-ND; Supplier 2: Mouser; Supplier Part Number 2: 579-24AA02T-I/ST; Mounting Technology: Surface Mount; Code_JEDEC: MO-153; ComponentLink1Description: Manufacturer URL; ComponentLink1URL: http://www.microchip.com/; ComponentLink2Description: Datasheet; ComponentLink2URL: http://ww1.microchip.com/downloads/en/DeviceDoc/21709J.pdf; ComponentLink3Description: Package Specification; ComponentLink3URL: http://www.microchip.com/stellent/groups/techpub_sg/documents/packagingspec/en012702.pdf
footprint TSSOP-ST8_N (TSOP, 8-Leads, Body 3x4.4mm, Pitch 0.65mm, IPC Medium Density)
footprint TSSOP-ST8_L (TSOP, 8-Leads, Body 3x4.4mm, Pitch 0.65mm, IPC High Density)
footprint TSSOP-ST8_M (TSOP, 8-Leads, Body 3x4.4mm, Pitch 0.65mm, IPC Low Density)
pins: 1 NC, 2 NC, 3 NC, 4 VSS (power), 5 SDA (io), 6 SCL (in), 7 WP (in), 8 VCC (power)

## 24AA02T/SN
designator U?
2Kbit, 400kHz, 1.7V, I2C Serial EEPROM, 8-Pin SOIC 150mil, Commercial Temperature, Tape and Reel; Manufacturer: Microchip; PartNumber: 24AA02T/SN; DatasheetVersion: revJ, Feb-2009; PackageVersion: revBB, Aug-2009; PackageReference: SOIC-SN8; PackageDescription: 8-Lead Plastic Small Outline (SN) - Narrow, 3.90mm Body [SOIC]; Supplier 1: Digi-Key; Supplier Part Number 1: 24AA02T/SN-ND; Supplier 2: Mouser; Supplier Part Number 2: 579-24AA02T/SN; Mounting Technology: Surface Mount; Code_JEDEC: MS-012; Code_IPC: SOIC127P600-8; ComponentLink1Description: Manufacturer URL; ComponentLink1URL: http://www.microchip.com/; ComponentLink2Description: Datasheet; ComponentLink2URL: http://ww1.microchip.com/downloads/en/DeviceDoc/21709J.pdf; ComponentLink3Description: Package Specification; ComponentLink3URL: http://www.microchip.com/stellent/groups/techpub_sg/documents/packagingspec/en012702.pdf
footprint SOIC-SN8_N (SOIC, 8-Leads, Body 4.9x3.8mm, Pitch 1.27mm, IPC Medium Density)
footprint SOIC-SN8_L (SOIC, 8-Leads, Body 4.9x3.8mm, Pitch 1.27mm, IPC High Density)
footprint SOIC-SN8_M (SOIC, 8-Leads, Body 4.9x3.8mm, Pitch 1.27mm, IPC Low Density)
pins: 1 NC, 2 NC, 3 NC, 4 VSS (power), 5 SDA (io), 6 SCL (in), 7 WP (in), 8 VCC (power)

## 24AA02T/ST
designator U?
2Kbit, 400kHz, 1.7V, I2C Serial EEPROM, 8-Pin TSSOP, Commercial Temperature, Tape and Reel; Manufacturer: Microchip; PartNumber: 24AA02T/ST; DatasheetVersion: revJ, Feb-2009; PackageVersion: revBB, Aug-2009; PackageReference: TSSOP-ST8; PackageDescription: 8-Lead Plastic Thin Shrink Small Outline (ST) - 4.4mm Body [TSSOP]; Supplier 1: Digi-Key; Supplier Part Number 1: 24AA02T/ST-ND; Supplier 2: Mouser; Supplier Part Number 2: 579-24AA02T/ST; Mounting Technology: Surface Mount; Code_JEDEC: MO-153; ComponentLink1Description: Manufacturer URL; ComponentLink1URL: http://www.microchip.com/; ComponentLink2Description: Datasheet; ComponentLink2URL: http://ww1.microchip.com/downloads/en/DeviceDoc/21709J.pdf; ComponentLink3Description: Package Specification; ComponentLink3URL: http://www.microchip.com/stellent/groups/techpub_sg/documents/packagingspec/en012702.pdf
footprint TSSOP-ST8_N (TSOP, 8-Leads, Body 3x4.4mm, Pitch 0.65mm, IPC Medium Density)
footprint TSSOP-ST8_L (TSOP, 8-Leads, Body 3x4.4mm, Pitch 0.65mm, IPC High Density)
footprint TSSOP-ST8_M (TSOP, 8-Leads, Body 3x4.4mm, Pitch 0.65mm, IPC Low Density)
pins: 1 NC, 2 NC, 3 NC, 4 VSS (power), 5 SDA (io), 6 SCL (in), 7 WP (in), 8 VCC (power)

## 24AA02UID-I/P
designator U?
2K I2C Serial EEPROMs with Unique 32-Bit Serial Number, 1.7 to 5.5 V, 400 KHz, Industrial Temperature, 8-Pin DIP (P8), Tube; Manufacturer: Microchip; PartNumber: 24AA02UID-I/P; DatasheetVersion: Rev. A; PackageVersion: C04-018B; PackageReference: DIP-P8; PackageDescription: 8-Lead Plastic Dual-In-Line, Row Spacing 7.62 mm, 9.271 x 6.35 mm Body, 2.54 mm Pitch; Supplier 1: Digi-Key; Supplier Part Number 1: 24AA02UID-I/P-ND; Supplier 2: Farnell; Supplier Part Number 2: 2345555; Supplier 3: Newark; Supplier Part Number 3: 70W1664; Supplier 4: Mouser; Supplier Part Number 4: 579-24AA02UID-I/P; Packing: Tube; VCC Range: 1.7 to 5.5 V; Mounting Technology: Through Hole; ComponentLink1Description: Manufacturer URL; ComponentLink1URL: http://www.microchip.com/; ComponentLink2Description: Datasheet; ComponentLink2URL: http://ww1.microchip.com/downloads/en/DeviceDoc/20005202A.pdf; ComponentLink3Description: Package Specification; ComponentLink3URL: http://ww1.microchip.com/downloads/en/DeviceDoc/20005215A.pdf
footprint MCHP-DIP-P8 (DIP, 8-Leads, Body 0.365x0.31mm, Pitch 0.1mm)
pins: 1 NC "Not Connected", 2 NC "Not Connected", 3 NC "Not Connected", 4 VSS (power) "Ground", 5 SDA (io) "Serial Address/Data I/O", 6 SCL (in) "Serial Clock", 7 NC "Not Connected", 8 VCC (power) "+1.7V to 5.5V Power Supply"

## 24AA02UID-I/SN
designator U?
2K I2C Serial EEPROMs with Unique 32-Bit Serial Number, 1.7 to 5.5 V, 400 KHz, Industrial Temperature, 8-Pin SOIC (SN8), Tube; Manufacturer: Microchip; PartNumber: 24AA02UID-I/SN; DatasheetVersion: Rev. A; PackageVersion: C04-057C, 12/2012; PackageReference: SOIC-SN8; PackageDescription: 8-Lead Plastic Small Outline, 4.9 x 3.9 mm Body, 1.27 mm Pitch; Supplier 1: Digi-Key; Supplier Part Number 1: 24AA02UID-I/SN-ND; Supplier 2: Farnell; Supplier Part Number 2: 2345556; Supplier 3: Newark; Supplier Part Number 3: 70W1665; Supplier 4: Newark; Supplier Part Number 4: 01X0463; Supplier 5: Mouser; Supplier Part Number 5: 579-24AA02UID-I/SN; Packing: Tube; VCC Range: 1.7 to 5.5 V; Mounting Technology: Surface Mount; ComponentLink1Description: Manufacturer URL; ComponentLink1URL: http://www.microchip.com/; ComponentLink2Description: Datasheet; ComponentLink2URL: http://ww1.microchip.com/downloads/en/DeviceDoc/20005202A.pdf; ComponentLink3Description: Package Specification; ComponentLink3URL: http://ww1.microchip.com/downloads/en/DeviceDoc/20002122B.pdf
footprint MCHP-SOIC-SN8_N (SOIC, 8-Leads, Body 4.9x3.9mm, Pitch 1.27mm, IPC Medium Density)
footprint MCHP-SOIC-SN8_L (SOIC, 8-Leads, Body 4.9x3.9mm, Pitch 1.27mm, IPC High Density)
footprint MCHP-SOIC-SN8_M (SOIC, 8-Leads, Body 4.9x3.9mm, Pitch 1.27mm, IPC Low Density)
pins: 1 NC "Not Connected", 2 NC "Not Connected", 3 NC "Not Connected", 4 VSS (power) "Ground", 5 SDA (io) "Serial Address/Data I/O", 6 SCL (in) "Serial Clock", 7 NC "Not Connected", 8 VCC (power) "+1.7V to 5.5V Power Supply"

## 24AA02UIDT-I/OT
designator U?
2K I2C Serial EEPROMs with Unique 32-Bit Serial Number, 1.7 to 5.5 V, 400 KHz, Industrial Temperature, 5-Pin SOT-23 (OT5), Tape and Reel; Manufacturer: Microchip; PartNumber: 24AA02UIDT-I/OT; DatasheetVersion: Rev. A; PackageVersion: C04-091B, 12/2012; PackageReference: SOT-23-OT5; PackageDescription: 5-Lead Plastic Small Outline Transistor, 2.9 x 1.55 mm Body, 0.95 mm Pitch; Supplier 1: Digi-Key; Supplier Part Number 1: 24AA02UIDT-I/OTTR-ND; Supplier 2: Digi-Key; Supplier Part Number 2: 24AA02UIDT-I/OTCT-ND; Supplier 3: Digi-Key; Supplier Part Number 3: 24AA02UIDT-I/OTDKR-ND; Supplier 4: Farnell; Supplier Part Number 4: 2345557; Supplier 5: Newark; Supplier Part Number 5: 70W1666; Supplier 6: Newark; Supplier Part Number 6: 01X0464; Supplier 7: Mouser; Supplier Part Number 7: 579-24AA02UIDT-I/OT; Packing: Tape and Reel; VCC Range: 1.7 to 5.5 V; Mounting Technology: Surface Mount; ComponentLink1Description: Manufacturer URL; ComponentLink1URL: http://www.microchip.com/; ComponentLink2Description: Datasheet; ComponentLink2URL: http://ww1.microchip.com/downloads/en/DeviceDoc/20005202A.pdf; ComponentLink3Description: Package Specification; ComponentLink3URL: http://www.microchip.com/stellent/groups/techpub_sg/documents/packagingspec/en012702.pdf
footprint MCHP-SOT-23-OT5_N (SOT23, 5-Leads, Body 2.9x1.55mm, Pitch 0.95mm, IPC Medium Density)
footprint MCHP-SOT-23-OT5_L (SOT23, 5-Leads, Body 2.9x1.55mm, Pitch 0.95mm, IPC High Density)
footprint MCHP-SOT-23-OT5_M (SOT23, 5-Leads, Body 2.9x1.55mm, Pitch 0.95mm, IPC Low Density)
pins: 1 SCL (in) "Serial Clock", 2 VSS (power) "Ground", 3 SDA (io) "Serial Address/Data I/O", 4 VCC (power) "+1.7V to 5.5V Power Supply", 5 NC "Not Connected"

## 24AA02UIDT-I/SN
designator U?
2K I2C Serial EEPROMs with Unique 32-Bit Serial Number, 1.7 to 5.5 V, 400 KHz, Industrial Temperature, 8-Pin SOIC (SN8), Tape and Reel; Manufacturer: Microchip; PartNumber: 24AA02UIDT-I/SN; DatasheetVersion: Rev. A; PackageVersion: C04-057C, 12/2012; PackageReference: SOIC-SN8; PackageDescription: 8-Lead Plastic Small Outline, 4.9 x 3.9 mm Body, 1.27 mm Pitch; Supplier 1: Digi-Key; Supplier Part Number 1: 24AA02UIDT-I/SN-ND; Supplier 2: Newark; Supplier Part Number 2: 70W1667; Supplier 3: Mouser; Supplier Part Number 3: 579-24AA02UIDT-I/SN; Packing: Tape and Reel; VCC Range: 1.7 to 5.5 V; Mounting Technology: Surface Mount; ComponentLink1Description: Manufacturer URL; ComponentLink1URL: http://www.microchip.com/; ComponentLink2Description: Datasheet; ComponentLink2URL: http://ww1.microchip.com/downloads/en/DeviceDoc/20005202A.pdf; ComponentLink3Description: Package Specification; ComponentLink3URL: http://ww1.microchip.com/downloads/en/DeviceDoc/20002122B.pdf
footprint MCHP-SOIC-SN8_N (SOIC, 8-Leads, Body 4.9x3.9mm, Pitch 1.27mm, IPC Medium Density)
footprint MCHP-SOIC-SN8_L (SOIC, 8-Leads, Body 4.9x3.9mm, Pitch 1.27mm, IPC High Density)
footprint MCHP-SOIC-SN8_M (SOIC, 8-Leads, Body 4.9x3.9mm, Pitch 1.27mm, IPC Low Density)
pins: 1 NC "Not Connected", 2 NC "Not Connected", 3 NC "Not Connected", 4 VSS (power) "Ground", 5 SDA (io) "Serial Address/Data I/O", 6 SCL (in) "Serial Clock", 7 NC "Not Connected", 8 VCC (power) "+1.7V to 5.5V Power Supply"

## 24AA04-I/MC
designator U?
4Kbit, 400kHz, 1.7V, I2C Serial EEPROM, 8-Pin DFN, Industrial Temperature; Manufacturer: Microchip; PartNumber: 24AA04-I/MC; DatasheetVersion: revK, Mar-2009; PackageVersion: revBB, Aug-2009; PackageReference: DFN-MC8; PackageDescription: 8-Lead Plastic Dual Flat, No Lead Package (MC) - 2x3x0.9mm Body [DFN]; Supplier 1: Digi-Key; Supplier Part Number 1: 24AA04-I/MC-ND; Supplier 2: Mouser; Supplier Part Number 2: 579-24AA04-I/MC; Mounting Technology: Surface Mount; ComponentLink1Description: Manufacturer URL; ComponentLink1URL: http://www.microchip.com/; ComponentLink2Description: Datasheet; ComponentLink2URL: http://ww1.microchip.com/downloads/en/DeviceDoc/21708K.pdf; ComponentLink3Description: Package Specification; ComponentLink3URL: http://www.microchip.com/stellent/groups/techpub_sg/documents/packagingspec/en012702.pdf
footprint DFN-MC8 (SON, 8-Leads, Body 2x3mm, Pitch 0.5mm, Microchip Recommended)
pins: 1 NC, 2 NC, 3 NC, 4 VSS (power), 5 SDA (io), 6 SCL (in), 7 WP (in), 8 VCC (power), 9 DAP (power)

## 24AA04-I/MS
designator U?
4Kbit, 400kHz, 1.7V, I2C Serial EEPROM, 8-Pin MSOP, Industrial Temperature; Manufacturer: Microchip; PartNumber: 24AA04-I/MS; DatasheetVersion: revK, Mar-2009; PackageVersion: revBB, Aug-2009; PackageReference: MSOP-MS8; PackageDescription: 8-Lead Plastic Micro Small Outline Package (MS) [MSOP]; Supplier 1: Digi-Key; Supplier Part Number 1: 24AA04-I/MS-ND; Supplier 2: Mouser; Supplier Part Number 2: 579-24AA04-I/MS; Mounting Technology: Surface Mount; ComponentLink1Description: Manufacturer URL; ComponentLink1URL: http://www.microchip.com/; ComponentLink2Description: Datasheet; ComponentLink2URL: http://ww1.microchip.com/downloads/en/DeviceDoc/21708K.pdf; ComponentLink3Description: Package Specification; ComponentLink3URL: http://www.microchip.com/stellent/groups/techpub_sg/documents/packagingspec/en012702.pdf
footprint MSOP-MS8_N (TSOP, 8-Leads, Body 3x3mm, Pitch 0.65mm, IPC Medium Density)
footprint MSOP-MS8_L (TSOP, 8-Leads, Body 3x3mm, Pitch 0.65mm, IPC High Density)
footprint MSOP-MS8_M (TSOP, 8-Leads, Body 3x3mm, Pitch 0.65mm, IPC Low Density)
pins: 1 NC, 2 NC, 3 NC, 4 VSS (power), 5 SDA (io), 6 SCL (in), 7 WP (in), 8 VCC (power)

## 24AA04-I/P
designator U?
4Kbit, 400kHz, 1.7V, I2C Serial EEPROM, 8-Pin PDIP, Industrial Temperature; Manufacturer: Microchip; PartNumber: 24AA04-I/P; DatasheetVersion: revK, Mar-2009; PackageVersion: revBB, Aug-2009; PackageReference: PDIP300-P8; PackageDescription: 8-Lead Plastic Dual In-Line (P) - 300 mil Body [PDIP]; Supplier 1: Digi-Key; Supplier Part Number 1: 24AA04-I/P-ND; Supplier 2: Farnell; Supplier Part Number 2: 1331275; Supplier 3: Newark; Supplier Part Number 3: 35M0696; Supplier 4: Newark; Supplier Part Number 4: 92C6813; Supplier 5: Mouser; Supplier Part Number 5: 579-24AA04-I/P; Mounting Technology: Through Hole; Code_JEDEC: MS-001; ComponentLink1Description: Manufacturer URL; ComponentLink1URL: http://www.microchip.com/; ComponentLink2Description: Datasheet; ComponentLink2URL: http://ww1.microchip.com/downloads/en/DeviceDoc/21708K.pdf; ComponentLink3Description: Package Specification; ComponentLink3URL: http://www.microchip.com/stellent/groups/techpub_sg/documents/packagingspec/en012702.pdf
footprint PDIP300-P8 (DIP, 8-Leads, Row Spacing 7.62mm, Pitch 2.54mm, Body 9.5x6.6mm)
pins: 1 NC, 2 NC, 3 NC, 4 VSS (power), 5 SDA (io), 6 SCL (in), 7 WP (in), 8 VCC (power)

## 24AA04-I/SN
designator U?
4Kbit, 400kHz, 1.7V, I2C Serial EEPROM, 8-Pin SOIC 150mil, Industrial Temperature; Manufacturer: Microchip; PartNumber: 24AA04-I/SN; DatasheetVersion: revK, Mar-2009; PackageVersion: revBB, Aug-2009; PackageReference: SOIC-SN8; PackageDescription: 8-Lead Plastic Small Outline (SN) - Narrow, 3.90mm Body [SOIC]; Supplier 1: Digi-Key; Supplier Part Number 1: 24AA04-I/SN-ND; Supplier 2: Farnell; Supplier Part Number 2: 1331276; Supplier 3: Newark; Supplier Part Number 3: 92C6814; Supplier 4: Mouser; Supplier Part Number 4: 579-24AA04-I/SN; Mounting Technology: Surface Mount; Code_JEDEC: MS-012; Code_IPC: SOIC127P600-8; ComponentLink1Description: Manufacturer URL; ComponentLink1URL: http://www.microchip.com/; ComponentLink2Description: Datasheet; ComponentLink2URL: http://ww1.microchip.com/downloads/en/DeviceDoc/21708K.pdf; ComponentLink3Description: Package Specification; ComponentLink3URL: http://www.microchip.com/stellent/groups/techpub_sg/documents/packagingspec/en012702.pdf
footprint SOIC-SN8_N (SOIC, 8-Leads, Body 4.9x3.8mm, Pitch 1.27mm, IPC Medium Density)
footprint SOIC-SN8_L (SOIC, 8-Leads, Body 4.9x3.8mm, Pitch 1.27mm, IPC High Density)
footprint SOIC-SN8_M (SOIC, 8-Leads, Body 4.9x3.8mm, Pitch 1.27mm, IPC Low Density)
pins: 1 NC, 2 NC, 3 NC, 4 VSS (power), 5 SDA (io), 6 SCL (in), 7 WP (in), 8 VCC (power)